# Altium schematic symbol library jumper.SCHLIB: 41 symbols
Pins are listed as number, name and electrical type; pins without a type are passive.

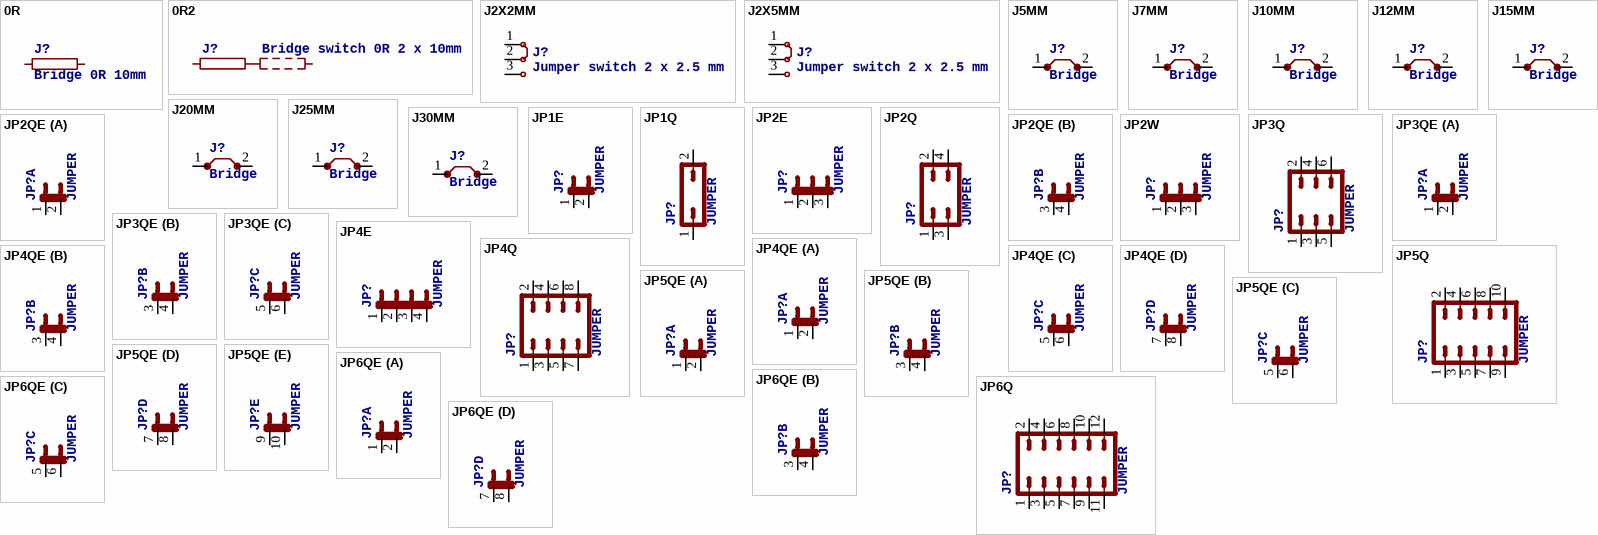
[diagram p0: symbols 0R to JP6QE]

## 0R
designator J?, comment Bridge 0R 10mm
footprint 0R/10
pins: 1, 2

## 0R2
designator J?, comment Bridge switch 0R 2 x 10mm
footprint 0R2/10
pins: 1, 2, 3

## J2X2MM
designator J?, comment Jumper switch 2 x 2.5 mm
footprint 04C
pins: 1, 2, 3

## J2X5MM
designator J?, comment Jumper switch 2 x 2.5 mm
footprint 05C
pins: 1, 2, 3

## J5MM
designator J?, comment Bridge
footprint 05
pins: 1, 2

## J7MM
designator J?, comment Bridge
footprint 07
pins: 1, 2

## J10MM
designator J?, comment Bridge
footprint 10
pins: 1, 2

## J12MM
designator J?, comment Bridge
footprint 12
pins: 1, 2

## J15MM
designator J?, comment Bridge
footprint 15
pins: 1, 2

## J20MM
designator J?, comment Bridge
footprint 20
pins: 1, 2

## J25MM
designator J?, comment Bridge
footprint 25
pins: 1, 2

## J30MM
designator J?, comment Bridge
footprint 30
pins: 1, 2

## JP1E
designator JP?, comment JUMPER
footprint JP1
pins: 1, 2

## JP1Q
designator JP?, comment JUMPER
footprint JP1
pins: 1, 2

## JP2E
designator JP?, comment JUMPER
footprint JP2
pins: 1, 2, 3

## JP2Q
designator JP?, comment JUMPER
footprint JP2Q
pins: 1, 2, 3, 4

## JP2QE
designator JP?, comment JUMPER
footprint JP2Q
part A pins: 1, 2
part B pins: 3 1, 4 2

## JP2W
designator JP?, comment JUMPER
footprint JP2W
pins: 1, 2, 3

## JP3Q
designator JP?, comment JUMPER
footprint JP3Q
pins: 1, 2, 3, 4, 5, 6

## JP3QE
designator JP?, comment JUMPER
footprint JP3Q
part A pins: 1, 2
part B pins: 3 1, 4 2
part C pins: 5 1, 6 2

## JP4E
designator JP?, comment JUMPER
footprint JP4
pins: 1, 2, 3, 4

## JP4Q
designator JP?, comment JUMPER
footprint JP4Q
pins: 1, 2, 3, 4, 5, 6, 7, 8

## JP4QE
designator JP?, comment JUMPER
footprint JP4Q
part A pins: 1, 2
part B pins: 3 1, 4 2
part C pins: 5 1, 6 2
part D pins: 7 1, 8 2

## JP5Q
designator JP?, comment JUMPER
footprint JP5Q
pins: 1, 2, 3, 4, 5, 6, 7, 8, 9, 10

## JP5QE
designator JP?, comment JUMPER
footprint JP5Q
part A pins: 1, 2
part B pins: 3 1, 4 2
part C pins: 5 1, 6 2
part D pins: 7 1, 8 2
part E pins: 9 1, 10 2

## JP6Q
designator JP?, comment JUMPER
footprint JP6Q
pins: 1, 2, 3, 4, 5, 6, 7, 8, 9, 10, 11, 12

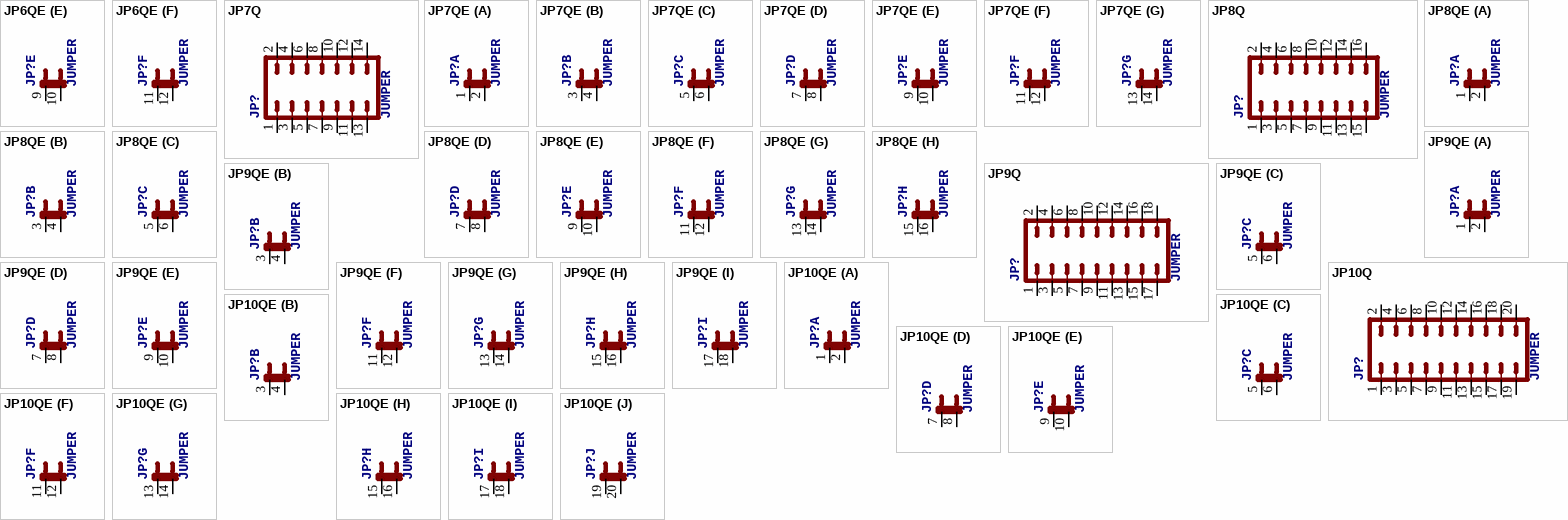
[diagram p1: symbols JP6QE to JP10QE]

## JP6QE
designator JP?, comment JUMPER
footprint JP6Q
part A pins: 1, 2
part B pins: 3 1, 4 2
part C pins: 5 1, 6 2
part D pins: 7 1, 8 2
part E pins: 9 1, 10 2
part F pins: 11 1, 12 2

## JP7Q
designator JP?, comment JUMPER
footprint JP7Q
pins: 1, 2, 3, 4, 5, 6, 7, 8, 9, 10, 11, 12, 13, 14

## JP7QE
designator JP?, comment JUMPER
footprint JP7Q
part A pins: 1, 2
part B pins: 3 1, 4 2
part C pins: 5 1, 6 2
part D pins: 7 1, 8 2
part E pins: 9 1, 10 2
part F pins: 11 1, 12 2
part G pins: 13 1, 14 2

## JP8Q
designator JP?, comment JUMPER
footprint JP8Q
pins: 1, 2, 3, 4, 5, 6, 7, 8, 9, 10, 11, 12, 13, 14, 15, 16

## JP8QE
designator JP?, comment JUMPER
footprint JP8Q
part A pins: 1, 2
part B pins: 3 1, 4 2
part C pins: 5 1, 6 2
part D pins: 7 1, 8 2
part E pins: 9 1, 10 2
part F pins: 11 1, 12 2
part G pins: 13 1, 14 2
part H pins: 15 1, 16 2

## JP9Q
designator JP?, comment JUMPER
footprint JP9Q
pins: 1, 2, 3, 4, 5, 6, 7, 8, 9, 10, 11, 12, 13, 14, 15, 16, 17, 18

## JP9QE
designator JP?, comment JUMPER
footprint JP9Q
part A pins: 1, 2
part B pins: 3 1, 4 2
part C pins: 5 1, 6 2
part D pins: 7 1, 8 2
part E pins: 9 1, 10 2
part F pins: 11 1, 12 2
part G pins: 13 1, 14 2
part H pins: 15 1, 16 2
part I pins: 17 1, 18 2

## JP10Q
designator JP?, comment JUMPER
footprint JP10Q
pins: 1, 2, 3, 4, 5, 6, 7, 8, 9, 10, 11, 12, 13, 14, 15, 16, 17, 18, 19, 20

## JP10QE
designator JP?, comment JUMPER
footprint JP10Q
part A pins: 1, 2
part B pins: 3 1, 4 2
part C pins: 5 1, 6 2
part D pins: 7 1, 8 2
part E pins: 9 1, 10 2
part F pins: 11 1, 12 2
part G pins: 13 1, 14 2
part H pins: 15 1, 16 2
part I pins: 17 1, 18 2
part J pins: 19 1, 20 2

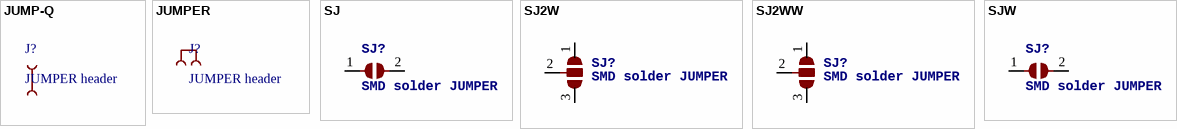
[diagram p2: symbols JUMP-Q to SJW]

## JUMP-Q
designator J?, comment JUMPER header
footprint JUMP

## JUMPER
designator J?, comment JUMPER header
footprint JUMP

## SJ
designator SJ?, comment SMD solder JUMPER
footprint SJ
pins: 1, 2

## SJ2W
designator SJ?, comment SMD solder JUMPER
footprint SJ_2
pins: 1, 2, 3

## SJ2WW
designator SJ?, comment SMD solder JUMPER
footprint SJ_2W
pins: 1, 2, 3

## SJW
designator SJ?, comment SMD solder JUMPER
footprint SJW
pins: 1, 2